# EAGLE library part XC3S1600EFG320 (library xilinx_spartan3_virtex4_and_5)
Xilinx FPGA
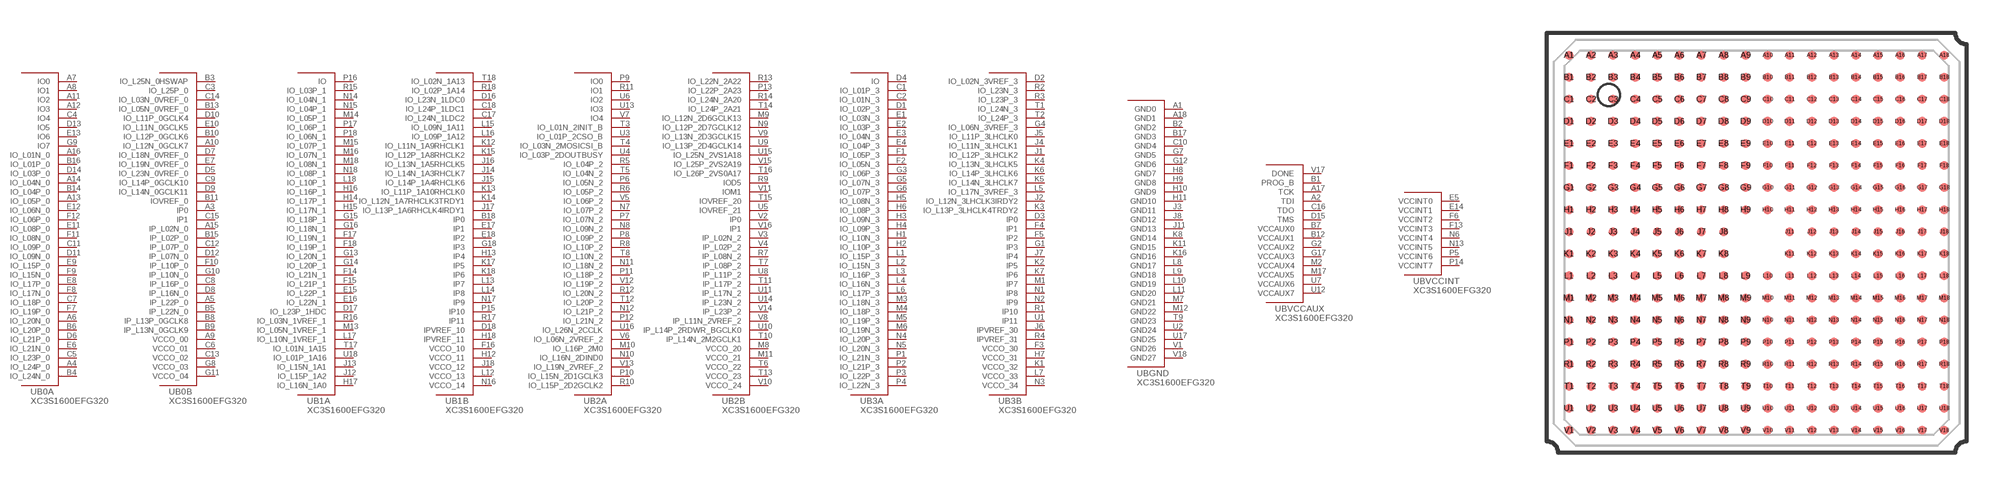
[diagram p57: symbol with the pads of FG320; footprint FG320]

Designator prefix U; gates B0A=XC3S1600EFG320_0A B0B=XC3S1600EFG320_0B B1A=XC3S1600EFG320_1A B1B=XC3S1600EFG320_1B B2A=XC3S1600EFG320_2A B2B=XC3S1600EFG320_2B B3A=XC3S1600EFG320_3A B3B=XC3S1600EFG320_3B BGND=XC3S1600EFG320_GND BVCCAUX=XC3S1600EFG320_VCCAUX BVCCINT=XC3S1600EFG320_VCCINT

## XC3S1600EFG320  [FG320]
A1  BGND:GND0  pas
A2  BVCCAUX:TDI
A3  B0B:IP0
A4  B0A:IO_L24P_0
A5  B0B:IP_L22P_0
A6  B0A:IO_L20N_0
A7  B0A:IO0
A8  B0A:IO1
A9  B0B:VCCO_00  pas
A10  B0B:IO_L12N_0GCLK7
A11  B0A:IO2
A12  B0A:IO3
A13  B0A:IO_L05P_0
A14  B0A:IO_L04N_0
A15  B0B:IP_L02N_0
A16  B0A:IO_L01N_0
A17  BVCCAUX:TCK
A18  BGND:GND1  pas
B1  BVCCAUX:PROG_B
B2  BGND:GND2  pas
B3  B0B:IO_L25N_0HSWAP
B4  B0A:IO_L24N_0
B5  B0B:IP_L22N_0
B6  B0A:IO_L20P_0
B7  BVCCAUX:VCCAUX0  pas
B8  B0B:IP_L13P_0GCLK8
B9  B0B:IP_L13N_0GCLK9
B10  B0B:IO_L12P_0GCLK6
B11  B0B:IOVREF_0
B12  BVCCAUX:VCCAUX1  pas
B13  B0B:IO_L05N_0VREF_0
B14  B0A:IO_L04P_0
B15  B0B:IP_L02P_0
B16  B0A:IO_L01P_0
B17  BGND:GND3  pas
B18  B1B:IP0
C1  B3A:IO_L01P_3
C2  B3A:IO_L01N_3
C3  B0B:IO_L25P_0
C4  B0A:IO4
C5  B0A:IO_L23P_0
C6  B0B:VCCO_01  pas
C7  B0A:IO_L18P_0
C8  B0B:IP_L16P_0
C9  B0B:IO_L14P_0GCLK10
C10  BGND:GND4  pas
C11  B0A:IO_L09P_0
C12  B0B:IP_L07P_0
C13  B0B:VCCO_02  pas
C14  B0B:IO_L03N_0VREF_0
C15  B0B:IP1
C16  BVCCAUX:TDO
C17  B1B:IO_L24N_1LDC2
C18  B1B:IO_L24P_1LDC1
D1  B3A:IO_L02P_3
D2  B3B:IO_L02N_3VREF_3
D3  B3B:IP0
D4  B3A:IO
D5  B0B:IO_L23N_0VREF_0
D6  B0A:IO_L21P_0
D7  B0B:IO_L18N_0VREF_0
D8  B0B:IP_L16N_0
D9  B0B:IO_L14N_0GCLK11
D10  B0B:IO_L11P_0GCLK4
D11  B0A:IO_L09N_0
D12  B0B:IP_L07N_0
D13  B0A:IO5
D14  B0A:IO_L03P_0
D15  BVCCAUX:TMS
D16  B1B:IO_L23N_1LDC0
D17  B1A:IO_L23P_1HDC
D18  B1B:IPVREF_10
E1  B3A:IO_L03N_3
E2  B3A:IO_L03P_3
E3  B3A:IO_L04N_3
E4  B3A:IO_L04P_3
E5  BVCCINT:VCCINT0  pas
E6  B0A:IO_L21N_0
E7  B0B:IO_L19N_0VREF_0
E8  B0A:IO_L17P_0
E9  B0A:IO_L15P_0
E10  B0B:IO_L11N_0GCLK5
E11  B0A:IO_L08P_0
E12  B0A:IO_L06N_0
E13  B0A:IO6
E14  BVCCINT:VCCINT1  pas
E15  B1A:IO_L22P_1
E16  B1A:IO_L22N_1
E17  B1B:IP1
E18  B1B:IP2
F1  B3A:IO_L05P_3
F2  B3A:IO_L05N_3
F3  B3B:VCCO_30  pas
F4  B3B:IP1
F5  B3B:IP2
F6  BVCCINT:VCCINT2  pas
F7  B0A:IO_L19P_0
F8  B0A:IO_L17N_0
F9  B0A:IO_L15N_0
F10  B0B:IP_L10P_0
F11  B0A:IO_L08N_0
F12  B0A:IO_L06P_0
F13  BVCCINT:VCCINT3  pas
F14  B1A:IO_L21N_1
F15  B1A:IO_L21P_1
F16  B1B:VCCO_10  pas
F17  B1A:IO_L19N_1
F18  B1A:IO_L19P_1
G1  B3B:IP3
G2  BVCCAUX:VCCAUX2  pas
G3  B3A:IO_L06P_3
G4  B3B:IO_L06N_3VREF_3
G5  B3A:IO_L07N_3
G6  B3A:IO_L07P_3
G7  BGND:GND5  pas
G8  B0B:VCCO_03  pas
G9  B0A:IO7
G10  B0B:IP_L10N_0
G11  B0B:VCCO_04  pas
G12  BGND:GND6  pas
G13  B1A:IO_L20N_1
G14  B1A:IO_L20P_1
G15  B1A:IO_L18P_1
G16  B1A:IO_L18N_1
G17  BVCCAUX:VCCAUX3  pas
G18  B1B:IP3
H1  B3A:IO_L10N_3
H2  B3A:IO_L10P_3
H3  B3A:IO_L09N_3
H4  B3A:IO_L09P_3
H5  B3A:IO_L08N_3
H6  B3A:IO_L08P_3
H7  B3B:VCCO_31  pas
H8  BGND:GND7  pas
H9  BGND:GND8  pas
H10  BGND:GND9  pas
H11  BGND:GND10  pas
H12  B1B:VCCO_11  pas
H13  B1B:IP4
H14  B1A:IO_L17P_1
H15  B1A:IO_L17N_1
H16  B1A:IO_L16P_1
H17  B1A:IO_L16N_1A0
H18  B1B:IPVREF_11
J1  B3B:IO_L12P_3LHCLK2
J2  B3B:IO_L12N_3LHCLK3IRDY2
J3  BGND:GND11  pas
J4  B3B:IO_L11N_3LHCLK1
J5  B3B:IO_L11P_3LHCLK0
J6  B3B:IPVREF_30
J7  B3B:IP4
J8  BGND:GND12  pas
J11  BGND:GND13  pas
J12  B1A:IO_L15P_1A2
J13  B1A:IO_L15N_1A1
J14  B1B:IO_L14N_1A3RHCLK7
J15  B1B:IO_L14P_1A4RHCLK6
J16  B1B:IO_L13N_1A5RHCLK5
J17  B1B:IO_L13P_1A6RHCLK4IRDY1
J18  B1B:VCCO_12  pas
K1  B3B:VCCO_32  pas
K2  B3B:IP5
K3  B3B:IO_L13P_3LHCLK4TRDY2
K4  B3B:IO_L13N_3LHCLK5
K5  B3B:IO_L14N_3LHCLK7
K6  B3B:IO_L14P_3LHCLK6
K7  B3B:IP6
K8  BGND:GND14  pas
K11  BGND:GND15  pas
K12  B1B:IO_L11N_1A9RHCLK1
K13  B1B:IO_L11P_1A10RHCLK0
K14  B1B:IO_L12N_1A7RHCLK3TRDY1
K15  B1B:IO_L12P_1A8RHCLK2
K16  BGND:GND16  pas
K17  B1B:IP5
K18  B1B:IP6
L1  B3A:IO_L15P_3
L2  B3A:IO_L15N_3
L3  B3A:IO_L16P_3
L4  B3A:IO_L16N_3
L5  B3B:IO_L17N_3VREF_3
L6  B3A:IO_L17P_3
L7  B3B:VCCO_33  pas
L8  BGND:GND17  pas
L9  BGND:GND18  pas
L10  BGND:GND19  pas
L11  BGND:GND20  pas
L12  B1B:VCCO_13  pas
L13  B1B:IP7
L14  B1B:IP8
L15  B1B:IO_L09N_1A11
L16  B1B:IO_L09P_1A12
L17  B1A:IO_L10N_1VREF_1
L18  B1A:IO_L10P_1
M1  B3B:IP7
M2  BVCCAUX:VCCAUX4  pas
M3  B3A:IO_L18N_3
M4  B3A:IO_L18P_3
M5  B3A:IO_L19P_3
M6  B3A:IO_L19N_3
M7  BGND:GND21  pas
M8  B2B:VCCO_20  pas
M9  B2B:IO_L12N_2D6GCLK13
M10  B2A:IO_L16P_2M0
M11  B2B:VCCO_21  pas
M12  BGND:GND22  pas
M13  B1A:IO_L05N_1VREF_1
M14  B1A:IO_L05P_1
M15  B1A:IO_L07P_1
M16  B1A:IO_L07N_1
M17  BVCCAUX:VCCAUX5  pas
M18  B1A:IO_L08N_1
N1  B3B:IP8
N2  B3B:IP9
N3  B3B:VCCO_34  pas
N4  B3A:IO_L20P_3
N5  B3A:IO_L20N_3
N6  BVCCINT:VCCINT4  pas
N7  B2A:IO_L07P_2
N8  B2A:IO_L09N_2
N9  B2B:IO_L12P_2D7GCLK12
N10  B2A:IO_L16N_2DIND0
N11  B2A:IO_L18N_2
N12  B2A:IO_L21P_2
N13  BVCCINT:VCCINT5  pas
N14  B1A:IO_L04N_1
N15  B1A:IO_L04P_1
N16  B1B:VCCO_14  pas
N17  B1B:IP9
N18  B1A:IO_L08P_1
P1  B3A:IO_L21N_3
P2  B3A:IO_L21P_3
P3  B3A:IO_L22P_3
P4  B3A:IO_L22N_3
P5  BVCCINT:VCCINT6  pas
P6  B2A:IO_L05N_2
P7  B2A:IO_L07N_2
P8  B2A:IO_L09P_2
P9  B2A:IO0
P10  B2A:IO_L15N_2D1GCLK3
P11  B2A:IO_L18P_2
P12  B2A:IO_L21N_2
P13  B2B:IO_L22P_2A23
P14  BVCCINT:VCCINT7  pas
P15  B1B:IP10
P16  B1A:IO
P17  B1A:IO_L06P_1
P18  B1A:IO_L06N_1
R1  B3B:IP10
R2  B3B:IO_L23N_3
R3  B3B:IO_L23P_3
R4  B3B:IPVREF_31
R5  B2A:IO_L04P_2
R6  B2A:IO_L05P_2
R7  B2B:IP_L08N_2
R8  B2A:IO_L10P_2
R9  B2B:IOD5
R10  B2A:IO_L15P_2D2GCLK2
R11  B2A:IO1
R12  B2A:IO_L20N_2
R13  B2B:IO_L22N_2A22
R14  B2B:IO_L24N_2A20
R15  B1A:IO_L03P_1
R16  B1A:IO_L03N_1VREF_1
R17  B1B:IP11
R18  B1B:IO_L02P_1A14
T1  B3B:IO_L24N_3
T2  B3B:IO_L24P_3
T3  B2A:IO_L01N_2INIT_B
T4  B2A:IO_L03N_2MOSICSI_B
T5  B2A:IO_L04N_2
T6  B2B:VCCO_22  pas
T7  B2B:IP_L08P_2
T8  B2A:IO_L10N_2
T9  BGND:GND23  pas
T10  B2B:IP_L14N_2M2GCLK1
T11  B2B:IP_L17P_2
T12  B2A:IO_L20P_2
T13  B2B:VCCO_23  pas
T14  B2B:IO_L24P_2A21
T15  B2B:IOVREF_20
T16  B2B:IO_L26P_2VS0A17
T17  B1A:IO_L01N_1A15
T18  B1B:IO_L02N_1A13
U1  B3B:IP11
U2  BGND:GND24  pas
U3  B2A:IO_L01P_2CSO_B
U4  B2A:IO_L03P_2DOUTBUSY
U5  B2B:IOVREF_21
U6  B2A:IO2
U7  BVCCAUX:VCCAUX6  pas
U8  B2B:IP_L11P_2
U9  B2B:IO_L13P_2D4GCLK14
U10  B2B:IP_L14P_2RDWR_BGCLK0
U11  B2B:IP_L17N_2
U12  BVCCAUX:VCCAUX7  pas
U13  B2A:IO3
U14  B2B:IP_L23N_2
U15  B2B:IO_L25N_2VS1A18
U16  B2A:IO_L26N_2CCLK
U17  BGND:GND25  pas
U18  B1A:IO_L01P_1A16
V1  BGND:GND26  pas
V2  B2B:IP0
V3  B2B:IP_L02N_2
V4  B2B:IP_L02P_2
V5  B2A:IO_L06P_2
V6  B2A:IO_L06N_2VREF_2
V7  B2A:IO4
V8  B2B:IP_L11N_2VREF_2
V9  B2B:IO_L13N_2D3GCLK15
V10  B2B:VCCO_24  pas
V11  B2B:IOM1
V12  B2A:IO_L19P_2
V13  B2A:IO_L19N_2VREF_2
V14  B2B:IP_L23P_2
V15  B2B:IO_L25P_2VS2A19
V16  B2B:IP1
V17  BVCCAUX:DONE
V18  BGND:GND27  pas

## Footprint FG320 (pad centres in mm)
smd 0.4 x 0.4: A1 -8.5,8.5; A2 -7.5,8.5; A3 -6.5,8.5; A4 -5.5,8.5; A5 -4.5,8.5; A6 -3.5,8.5; A7 -2.5,8.5; A8 -1.5,8.5; A9 -0.5,8.5; A10 0.5,8.5; A11 1.5,8.5; A12 2.5,8.5; A13 3.5,8.5; A14 4.5,8.5; A15 5.5,8.5; A16 6.5,8.5; A17 7.5,8.5; A18 8.5,8.5; B1 -8.5,7.5; B2 -7.5,7.5; B3 -6.5,7.5; B4 -5.5,7.5; B5 -4.5,7.5; B6 -3.5,7.5; B7 -2.5,7.5; B8 -1.5,7.5; B9 -0.5,7.5; B10 0.5,7.5; B11 1.5,7.5; B12 2.5,7.5; B13 3.5,7.5; B14 4.5,7.5; B15 5.5,7.5; B16 6.5,7.5; B17 7.5,7.5; B18 8.5,7.5; C1 -8.5,6.5; C2 -7.5,6.5; C3 -6.5,6.5; C4 -5.5,6.5; C5 -4.5,6.5; C6 -3.5,6.5; C7 -2.5,6.5; C8 -1.5,6.5; C9 -0.5,6.5; C10 0.5,6.5; C11 1.5,6.5; C12 2.5,6.5; C13 3.5,6.5; C14 4.5,6.5; C15 5.5,6.5; C16 6.5,6.5; C17 7.5,6.5; C18 8.5,6.5; D1 -8.5,5.5; D2 -7.5,5.5; D3 -6.5,5.5; D4 -5.5,5.5; D5 -4.5,5.5; D6 -3.5,5.5; D7 -2.5,5.5; D8 -1.5,5.5; D9 -0.5,5.5; D10 0.5,5.5; D11 1.5,5.5; D12 2.5,5.5; D13 3.5,5.5; D14 4.5,5.5; D15 5.5,5.5; D16 6.5,5.5; D17 7.5,5.5; D18 8.5,5.5; E1 -8.5,4.5; E2 -7.5,4.5; E3 -6.5,4.5; E4 -5.5,4.5; E5 -4.5,4.5; E6 -3.5,4.5; E7 -2.5,4.5; E8 -1.5,4.5; E9 -0.5,4.5; E10 0.5,4.5; E11 1.5,4.5; E12 2.5,4.5; E13 3.5,4.5; E14 4.5,4.5; E15 5.5,4.5; E16 6.5,4.5; E17 7.5,4.5; E18 8.5,4.5; F1 -8.5,3.5; F2 -7.5,3.5; F3 -6.5,3.5; F4 -5.5,3.5; F5 -4.5,3.5; F6 -3.5,3.5; F7 -2.5,3.5; F8 -1.5,3.5; F9 -0.5,3.5; F10 0.5,3.5; F11 1.5,3.5; F12 2.5,3.5; F13 3.5,3.5; F14 4.5,3.5; F15 5.5,3.5; F16 6.5,3.5; F17 7.5,3.5; F18 8.5,3.5; G1 -8.5,2.5; G2 -7.5,2.5; G3 -6.5,2.5; G4 -5.5,2.5; G5 -4.5,2.5; G6 -3.5,2.5; G7 -2.5,2.5; G8 -1.5,2.5; G9 -0.5,2.5; G10 0.5,2.5; G11 1.5,2.5; G12 2.5,2.5; G13 3.5,2.5; G14 4.5,2.5; G15 5.5,2.5; G16 6.5,2.5; G17 7.5,2.5; G18 8.5,2.5; H1 -8.5,1.5; H2 -7.5,1.5; H3 -6.5,1.5; H4 -5.5,1.5; H5 -4.5,1.5; H6 -3.5,1.5; H7 -2.5,1.5; H8 -1.5,1.5; H9 -0.5,1.5; H10 0.5,1.5; H11 1.5,1.5; H12 2.5,1.5; H13 3.5,1.5; H14 4.5,1.5; H15 5.5,1.5; H16 6.5,1.5; H17 7.5,1.5; H18 8.5,1.5; J1 -8.5,0.5; J2 -7.5,0.5; J3 -6.5,0.5; J4 -5.5,0.5; J5 -4.5,0.5; J6 -3.5,0.5; J7 -2.5,0.5; J8 -1.5,0.5; J11 1.5,0.5; J12 2.5,0.5; J13 3.5,0.5; J14 4.5,0.5; J15 5.5,0.5; J16 6.5,0.5; J17 7.5,0.5; J18 8.5,0.5; K1 -8.5,-0.5; K2 -7.5,-0.5; K3 -6.5,-0.5; K4 -5.5,-0.5; K5 -4.5,-0.5; K6 -3.5,-0.5; K7 -2.5,-0.5; K8 -1.5,-0.5; K11 1.5,-0.5; K12 2.5,-0.5; K13 3.5,-0.5; K14 4.5,-0.5; K15 5.5,-0.5; K16 6.5,-0.5; K17 7.5,-0.5; K18 8.5,-0.5; L1 -8.5,-1.5; L2 -7.5,-1.5; L3 -6.5,-1.5; L4 -5.5,-1.5; L5 -4.5,-1.5; L6 -3.5,-1.5; L7 -2.5,-1.5; L8 -1.5,-1.5; L9 -0.5,-1.5; L10 0.5,-1.5; L11 1.5,-1.5; L12 2.5,-1.5; L13 3.5,-1.5; L14 4.5,-1.5; L15 5.5,-1.5; L16 6.5,-1.5; L17 7.5,-1.5; L18 8.5,-1.5; M1 -8.5,-2.5; M2 -7.5,-2.5; M3 -6.5,-2.5; M4 -5.5,-2.5; M5 -4.5,-2.5; M6 -3.5,-2.5; M7 -2.5,-2.5; M8 -1.5,-2.5; M9 -0.5,-2.5; M10 0.5,-2.5; M11 1.5,-2.5; M12 2.5,-2.5; M13 3.5,-2.5; M14 4.5,-2.5; M15 5.5,-2.5; M16 6.5,-2.5; M17 7.5,-2.5; M18 8.5,-2.5; N1 -8.5,-3.5; N2 -7.5,-3.5; N3 -6.5,-3.5; N4 -5.5,-3.5; N5 -4.5,-3.5; N6 -3.5,-3.5; N7 -2.5,-3.5; N8 -1.5,-3.5; N9 -0.5,-3.5; N10 0.5,-3.5; N11 1.5,-3.5; N12 2.5,-3.5; N13 3.5,-3.5; N14 4.5,-3.5; N15 5.5,-3.5; N16 6.5,-3.5; N17 7.5,-3.5; N18 8.5,-3.5; P1 -8.5,-4.5; P2 -7.5,-4.5; P3 -6.5,-4.5; P4 -5.5,-4.5; P5 -4.5,-4.5; P6 -3.5,-4.5; P7 -2.5,-4.5; P8 -1.5,-4.5; P9 -0.5,-4.5; P10 0.5,-4.5; P11 1.5,-4.5; P12 2.5,-4.5; P13 3.5,-4.5; P14 4.5,-4.5; P15 5.5,-4.5; P16 6.5,-4.5; P17 7.5,-4.5; P18 8.5,-4.5; R1 -8.5,-5.5; R2 -7.5,-5.5; R3 -6.5,-5.5; R4 -5.5,-5.5; R5 -4.5,-5.5; R6 -3.5,-5.5; R7 -2.5,-5.5; R8 -1.5,-5.5; R9 -0.5,-5.5; R10 0.5,-5.5; R11 1.5,-5.5; R12 2.5,-5.5; R13 3.5,-5.5; R14 4.5,-5.5; R15 5.5,-5.5; R16 6.5,-5.5; R17 7.5,-5.5; R18 8.5,-5.5; T1 -8.5,-6.5; T2 -7.5,-6.5; T3 -6.5,-6.5; T4 -5.5,-6.5; T5 -4.5,-6.5; T6 -3.5,-6.5; T7 -2.5,-6.5; T8 -1.5,-6.5; T9 -0.5,-6.5; T10 0.5,-6.5; T11 1.5,-6.5; T12 2.5,-6.5; T13 3.5,-6.5; T14 4.5,-6.5; T15 5.5,-6.5; T16 6.5,-6.5; T17 7.5,-6.5; T18 8.5,-6.5; U1 -8.5,-7.5; U2 -7.5,-7.5; U3 -6.5,-7.5; U4 -5.5,-7.5; U5 -4.5,-7.5; U6 -3.5,-7.5; U7 -2.5,-7.5; U8 -1.5,-7.5; U9 -0.5,-7.5; U10 0.5,-7.5; U11 1.5,-7.5; U12 2.5,-7.5; U13 3.5,-7.5; U14 4.5,-7.5; U15 5.5,-7.5; U16 6.5,-7.5; U17 7.5,-7.5; U18 8.5,-7.5; V1 -8.5,-8.5; V2 -7.5,-8.5; V3 -6.5,-8.5; V4 -5.5,-8.5; V5 -4.5,-8.5; V6 -3.5,-8.5; V7 -2.5,-8.5; V8 -1.5,-8.5; V9 -0.5,-8.5; V10 0.5,-8.5; V11 1.5,-8.5; V12 2.5,-8.5; V13 3.5,-8.5; V14 4.5,-8.5; V15 5.5,-8.5; V16 6.5,-8.5; V17 7.5,-8.5; V18 8.5,-8.5